# Altium footprint library PCB_Log.PcbLib: 5 footprints
Each footprint in its own frame and in the unit in brackets; x right, y up, seen from the top. Pads: shape width x height; smd on the part's side, far side on the other; paste and mask are expansions set on the pad; w line width, h text height; cw(c..) or ccw(c..) is an arc to the next point about the centre after c.
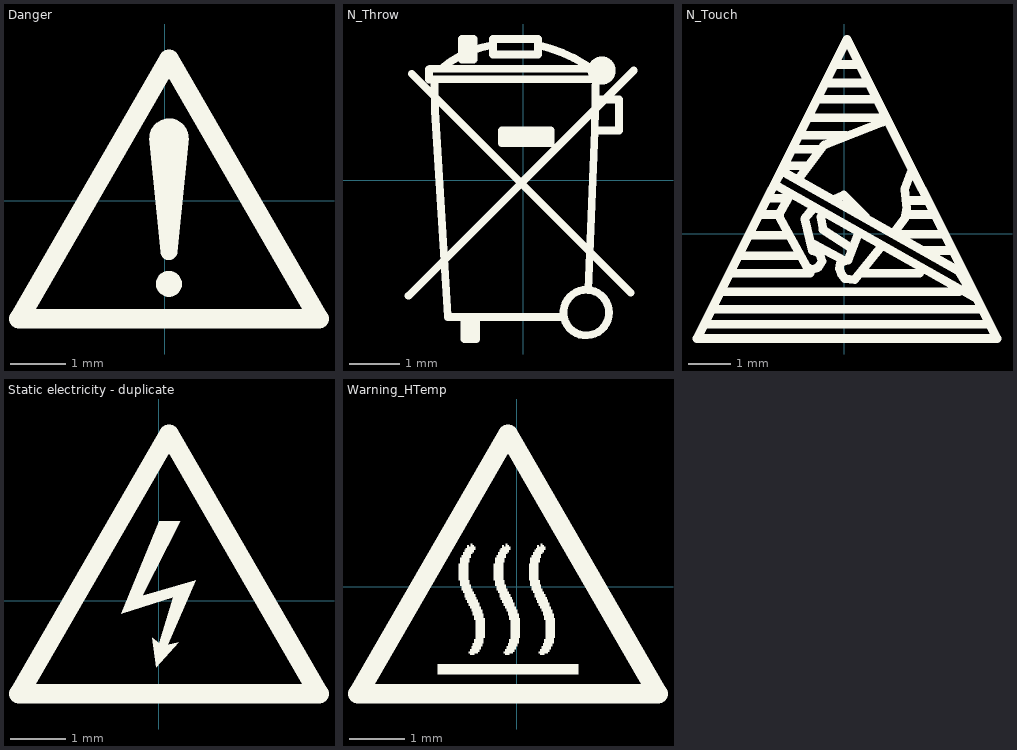
[diagram p0: the footprints below, top view; thin cyan lines are the x and y axes]

## Danger [mm]
Top Overlay:
  circle w0.254: c0.075,-1.502 r0.108
  circle w0.356: c0.075,1.139 r0.178
  circle w0.254: c0.075,-0.918 r0.025
  region: -0.281,1.139 0.431,1.139 0.227,-0.918 -0.077,-0.918
  lines w0.356: -2.643,-2.137 0.075,2.57 2.793,-2.137 -2.643,-2.137

## N_Throw [mm]
Top Overlay:
  circle w0.152: c1.55,2.166 r0.201
  circle w0.152: c1.245,-2.609 r0.45
  lines w0.152: -2.26,-2.279 2.185,2.166 ; -2.197,2.103 2.121,-2.215 ; -1.856,2.192 -1.856,1.991 1.41,2.001 ; -1.841,2.204 1.359,2.204 ; -1.75,1.991 -1.74,1.366 -1.486,-2.673 ; -1.613,2.204 cw(c-0.297,0.656) -0.622,2.661 ; -1.486,-2.698 0.775,-2.698 ; -1.384,-2.698 -1.155,-2.698 -1.155,-3.13 -0.927,-3.13 -0.927,-2.698 ; -1.105,2.433 -1.105,2.788 -1.079,2.788 ; -1.054,-3.13 -1.054,-2.698 ; -0.597,2.788 -0.597,2.484 0.292,2.484 0.292,2.788 -0.571,2.788 ; -0.419,0.858 0.546,0.858 ; 0.318,2.661 cw(c-0.299,-0.092) 1.41,2.153 ; 1.283,-2.165 1.41,0.985 ; 1.435,1.595 1.893,1.595 1.893,0.985 1.41,0.985 ; 1.435,2.204 1.41,0.985 ; 1.461,2.204 1.461,2.23 cw(c1.537,2.23) 1.613,2.23 1.613,2.128 cw(c1.562,2.128) 1.512,2.128 1.512,2.153 ; -1.206,2.382 -0.978,2.382 -0.978,2.788 -1.206,2.788 -1.206,2.382 ; -0.419,0.731 -0.419,0.985 0.546,0.985 0.546,0.731 -0.419,0.731

## N_Touch [mm]
Top Overlay:
  lines w0.203: -3.441,-2.444 0.064,4.541 ; -3.441,-2.444 3.569,-2.444 ; -3.441,-2.444 0.064,4.541 ; -3.441,-2.444 3.569,-2.444 ; -1.638,1.163 -1.46,1.468 ; -1.638,1.163 3.036,-1.479 ; -1.638,1.163 -1.46,1.468 ; -1.638,1.163 3.036,-1.479 ; -1.511,0.375 -0.876,-0.768 ; -1.511,0.375 -1.511,0.502 -1.511,0.375 ; -1.511,0.375 -0.876,-0.768 ; -1.46,1.468 2.68,-0.869 ; -1.46,1.468 2.68,-0.869 ; -0.927,0.35 -0.724,0.604 -0.927,0.35 ; -0.927,0.35 -0.749,-0.387 ; -0.927,0.35 -0.749,-0.387 ; -0.876,-0.768 -0.774,-0.844 ; -0.876,-0.768 -0.774,-0.844 ; -0.774,-0.844 -0.622,-0.793 ; -0.774,-0.844 -0.622,-0.793 ; -0.749,-0.387 -0.571,-0.463 ; -0.749,-0.387 -0.571,-0.463 ; -0.622,-0.793 -0.52,-0.641 ; -0.622,-0.793 -0.52,-0.641 ; -0.571,-0.463 -0.52,-0.641 ; -0.571,-0.463 -0.52,-0.641 ; -0.495,0.096 0.165,-0.336 -0.495,0.096 ; -0.495,0.096 -0.546,0.401 -0.495,0.096 ; -0.47,2.077 -1.028,1.341 -0.47,2.077 ; -0.47,2.077 0.902,2.611 -0.47,2.077 ; -0.114,-0.818 -0.063,-0.945 ; -0.114,-0.818 -0.089,-0.691 ; -0.114,-0.818 -0.063,-0.945 ; -0.114,-0.818 -0.089,-0.691 ; -0.089,-0.691 -0.012,-0.641 ; -0.089,-0.691 -0.012,-0.641 ; -0.063,-0.945 0.013,-1.047 ; -0.063,-0.945 0.013,-1.047 ; -0.012,-0.641 0.089,-0.615 ; -0.012,-0.641 0.089,-0.615 ; -0.012,0.909 0.496,0.401 -0.012,0.909 ; -0.012,0.909 -0.241,0.807 -0.012,0.909 ; 0.013,-1.047 0.242,-1.072 ; 0.013,-1.047 0.242,-1.072 ; 0.064,4.541 3.569,-2.444 ; 0.064,4.541 3.569,-2.444 ; 0.089,-0.615 0.318,-0.006 0.089,-0.615 ; 0.242,-1.072 0.877,-0.285 0.242,-1.072 ; 1.41,0.35 1.156,0.02 1.41,0.35 ; 1.41,0.35 1.461,0.604 ; 1.41,0.35 1.461,0.604 ; 1.41,1.036 1.562,1.442 1.41,1.036 ; 1.41,1.036 1.461,0.604 ; 1.41,1.036 1.461,0.604 ; 2.68,-0.869 3.036,-1.479 ; 2.68,-0.869 3.036,-1.479 ; -3.238,-2.114 3.34,-2.114 -3.238,-2.114 ; -3.035,-1.758 3.163,-1.758 -3.035,-1.758 ; -2.806,-1.352 2.68,-1.352 -2.806,-1.352 ; -2.603,-0.92 -0.8,-0.92 -2.603,-0.92 ; -2.425,-0.514 -1.054,-0.514 -2.425,-0.514 ; -2.146,-0.031 -1.333,-0.031 -2.146,-0.031 ; -1.892,0.452 -1.562,0.452 -1.892,0.452 ; -1.714,0.833 -1.435,0.833 -1.714,0.833 ; -1.511,0.477 -1.257,0.934 -1.511,0.477 ; -1.333,1.595 -0.901,1.595 -1.333,1.595 ; -1.181,1.976 -0.597,1.976 -1.181,1.976 ; -0.978,2.306 0.038,2.306 -0.978,2.306 ; -0.825,2.712 0.851,2.712 -0.825,2.712 ; -0.724,-0.234 -0.012,-0.615 -0.724,-0.234 ; -0.571,3.144 0.673,3.144 -0.571,3.144 ; -0.393,3.525 0.496,3.525 -0.393,3.525 ; -0.19,3.957 0.292,3.957 -0.19,3.957 ; 0.445,-0.92 1.766,-0.92 0.445,-0.92 ; 1.308,-0.006 2.248,-0.006 1.308,-0.006 ; 1.486,0.452 2.07,0.452 1.486,0.452 ; 1.562,0.782 1.867,0.782 1.562,0.782 ; 1.893,-0.387 2.451,-0.387 1.893,-0.387

## Static electricity - duplicate [mm]
Top Overlay:
  region: 0.005,1.437 0.386,1.437 -0.3,0.091 0.666,0.37 0.158,-0.798 0.361,-0.747 -0.046,-1.205 -0.122,-0.671 0.005,-0.773 0.259,0.065 -0.681,-0.239
  lines w0.356: -2.535,-1.687 0.183,3.02 2.901,-1.687 -2.535,-1.687

## Warning_HTemp [mm]
Top Overlay:
  drawing of 10 lines, arcs and shapes, not listed